# Altium footprint library Baud_Rate.PcbLib: 1 footprints
Each footprint in its own frame and in the unit in brackets; x right, y up, seen from the top. Pads: shape width x height; smd on the part's side, far side on the other; paste and mask are expansions set on the pad; w line width, h text height; cw(c..) or ccw(c..) is an arc to the next point about the centre after c.
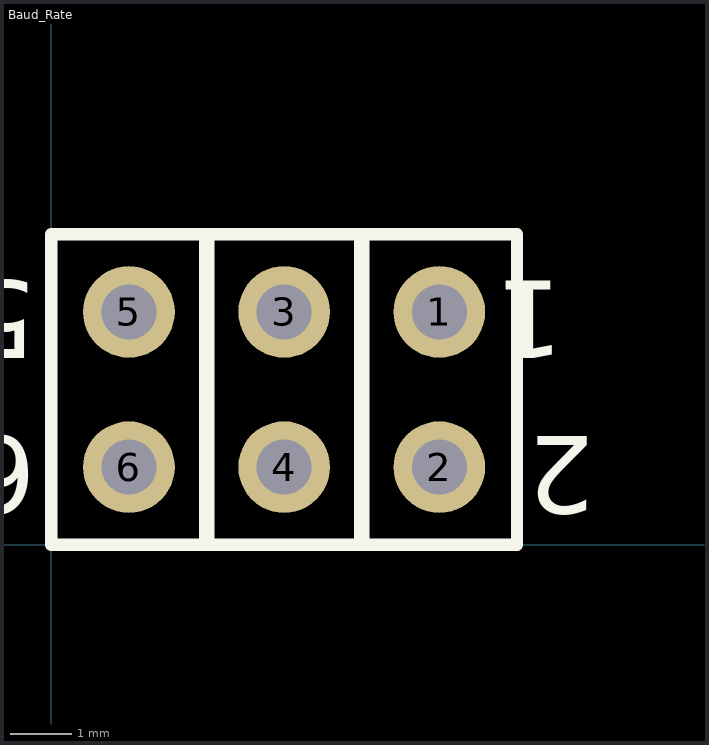
[diagram p0: the footprint, top view; thin cyan lines are the x and y axes]

## Baud_Rate [mm]
pads (6):
  round 1.5 hole 0.9: 1(6.35,3.81) 2(6.35,1.27) 3(3.81,3.81) 4(3.81,1.27) 5(1.27,3.81) 6(1.27,1.27)
Top Overlay:
  lines w0.2: 4.868,5.08 0,5.08 ; 0,5.08 7.62,5.08 7.62,0 0,0 0,5.08
  lines w0.254: 2.54,0.127 2.54,4.953 ; 5.08,0.127 5.08,4.953
  text "1" at 8.382,4.318 h1.27
  text "2" at 8.89,1.778 h1.27
  text "5" at -0.254,4.318 h1.27
  text "6" at -0.254,1.778 h1.27